# Altium footprint library Fuses.PcbLib: 1 footprints
Each footprint in its own frame and in the unit in brackets; x right, y up, seen from the top. Pads: shape width x height; smd on the part's side, far side on the other; paste and mask are expansions set on the pad; w line width, h text height; cw(c..) or ccw(c..) is an arc to the next point about the centre after c.
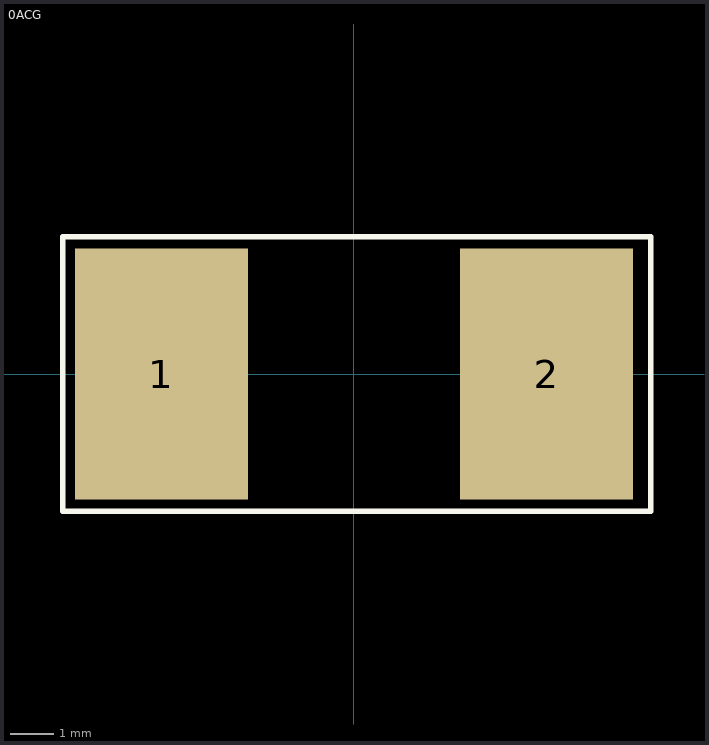
[diagram p0: the footprint, top view; thin cyan lines are the x and y axes]

## 0ACG [mm] "Bel Fuse Inc."
pads (2):
  rect 4x5.8 smd: 1(-4.45,0) 2(4.45,0)
Top Overlay:
  lines w0.127: -6.731,-3.175 6.858,-3.175 6.858,3.175 -6.731,3.175 -6.731,-3.175
3D body: height 5.05, standoff 0, extent -5.71,-2.494 5.49,2.554